# Altium footprint library Rohm Semiconductor Sensors&MEMS.PcbLib: 3 footprints
Each footprint in its own frame and in the unit in brackets; x right, y up, seen from the top. Pads: shape width x height; smd on the part's side, far side on the other; paste and mask are expansions set on the pad; w line width, h text height; cw(c..) or ccw(c..) is an arc to the next point about the centre after c.
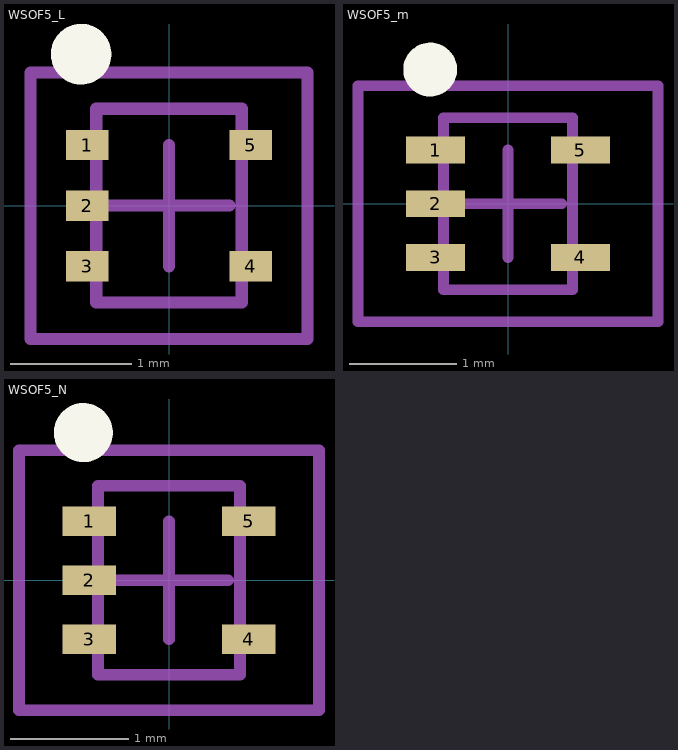
[diagram p0: the footprints below, top view; thin cyan lines are the x and y axes]

## WSOF5_L [mm] "WSOF, 5-Leads, Body 1.6x1.2mm, Pitch 0.50mm, IPC High Density"
height 0.6
pads (5):
  rect 0.35x0.25 smd: 1(-0.675,0.5) 2(-0.675,0) 3(-0.675,-0.5) 4(0.675,-0.5) 5(0.675,0.5)
Top Overlay:
  circle w0.25: c-0.725,1.25 r0.125
Mechanical 13:
  lines w0.1: -0.6,-0.8 0.6,-0.8 0.6,0.8 -0.6,0.8 -0.6,-0.8
Mechanical 15:
  lines w0.1: -0.5,0 0.5,0 ; 0,-0.5 0,0.5 ; -1.143,-1.1 1.143,-1.1 1.143,1.1 -1.143,1.1 -1.143,-1.1
3D body: height 0.6, standoff 0.08, extent -0.6,-0.8 0.6,0.8

## WSOF5_m [mm] "WSOF, 5-Leads, Body 1.6x1.2mm, Pitch 0.50mm, IPC Low Density"
height 0.6
pads (5):
  rect 0.55x0.25 smd: 1(-0.675,0.5) 2(-0.675,0) 3(-0.675,-0.5) 4(0.675,-0.5) 5(0.675,0.5)
Top Overlay:
  circle w0.25: c-0.725,1.25 r0.125
Mechanical 13:
  lines w0.1: -0.6,-0.8 0.6,-0.8 0.6,0.8 -0.6,0.8 -0.6,-0.8
Mechanical 15:
  lines w0.1: -0.5,0 0.5,0 ; 0,-0.5 0,0.5 ; -1.397,-1.1 1.397,-1.1 1.397,1.1 -1.397,1.1 -1.397,-1.1
3D body: height 0.6, standoff 0.08, extent -0.6,-0.8 0.6,0.8

## WSOF5_N [mm] "WSOF, 5-Leads, Body 1.6x1.2mm, Pitch 0.50mm, IPC Medium Density"
height 0.6
pads (5):
  rect 0.45x0.25 smd: 1(-0.675,0.5) 2(-0.675,0) 3(-0.675,-0.5) 4(0.675,-0.5) 5(0.675,0.5)
Top Overlay:
  circle w0.25: c-0.725,1.25 r0.125
Mechanical 13:
  lines w0.1: -0.6,-0.8 -0.6,0.8 0.6,0.8 0.6,-0.8 -0.6,-0.8
Mechanical 15:
  lines w0.1: -0.5,0 0.5,0 ; 0,-0.5 0,0.5 ; -1.27,-1.1 -1.27,1.1 1.27,1.1 1.27,-1.1 -1.27,-1.1
3D body: height 0.6, standoff 0.08, extent -0.6,-0.8 0.6,0.8